# EAGLE library part THAT1646 (library that-ics)
THAT Corporation 1646 OutSmarts Balanced line driver
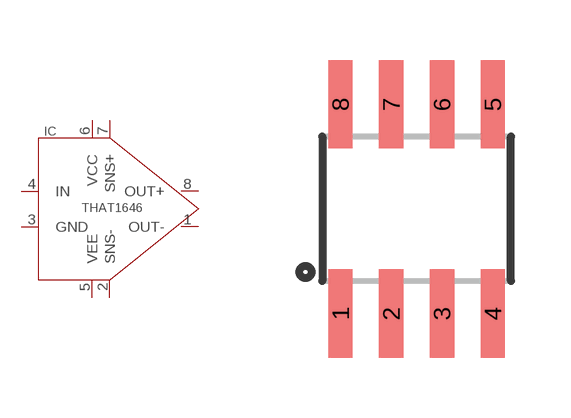
[diagram p1: symbol with the pads of SO08; footprint SO08]

Designator prefix IC

## THAT1646 (PROD_ID: IC-13473; VALUE: THAT1646)  [SO08]
1  OUT-
2  SNS-
3  GND
4  IN
5  VEE
6  VCC
7  SNS+
8  OUT+

## Footprint SO08 (pad centres in mm)
Small Outline Package Fits JEDEC packages (narrow SOIC-8)
smd 0.61 x 2.21: 1 -1.905,-2.616; 2 -0.635,-2.616; 3 0.635,-2.616; 4 1.905,-2.616; 5 1.905,2.616; 6 0.635,2.616; 7 -0.635,2.616; 8 -1.905,2.616